# Altium integrated library Altium_WE-XTAL (rev21a).IntLib: 324 symbols (part 3 of 5)
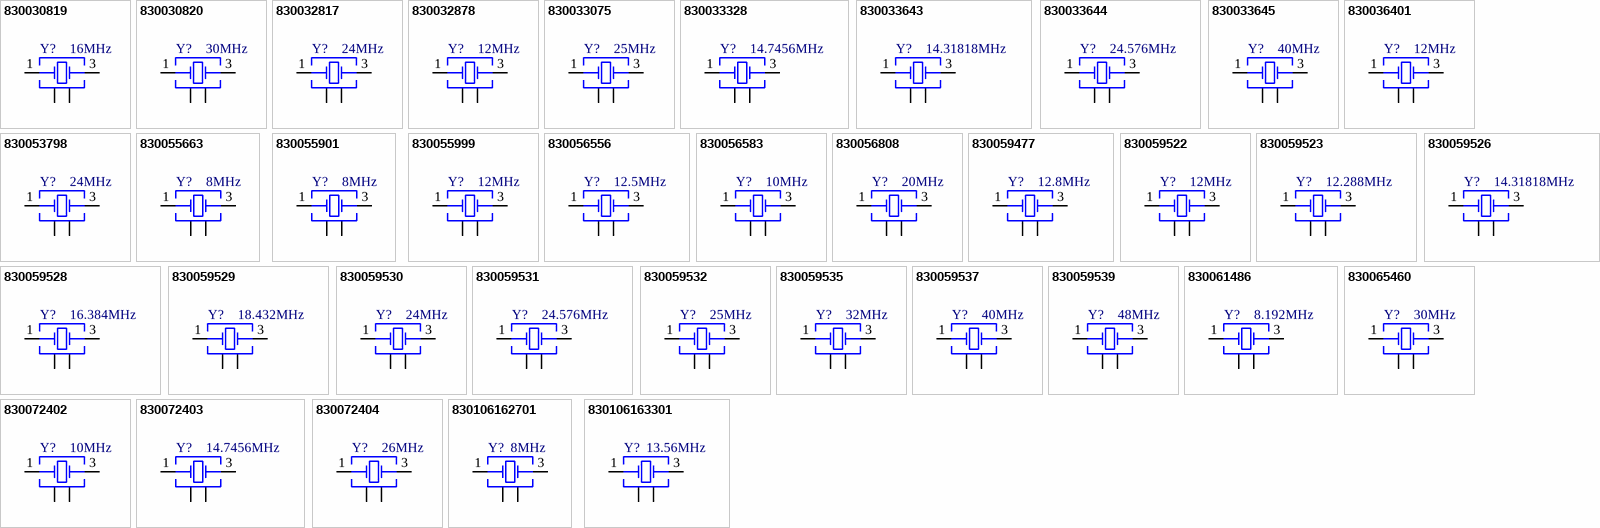
[diagram p20: symbols 830030819 to 830106163301]

## 830033643
designator Y?, comment 14.31818MHz
WE-XTAL Quartz Crystal, SMT, CFPX-104, 14.31818MHz, +/-50ppm; Manufacturer Part Number: 830033643; Manufacturer: Wurth Elektronik; Load Capacitance: 18pF; ComponentLink1Description: Manufacturer; ComponentLink1URL: http://www.we-online.de; ComponentLink2Description: Datasheet; ComponentLink2URL: https://katalog.we-online.com/pbs/datasheet/830033643.pdf; Operating Temperature: -10 to +60degC; Packaging: Tape and Reel; Published Date: July 2020; Size: CFPX-104; Frequency Stability: +/-50ppm; Frequency: 14.31818MHz; Frequency Tolerance: +/-50ppm; Mounting Technology: SMT
footprint WE-XTAL_CFPX-104
pins: 1 Crystal, 2 GND & Lid, 3 Crystal, 4 GND & Lid

## 830033644
designator Y?, comment 24.576MHz
WE-XTAL Quartz Crystal, SMT, CFPX-104, 24.576MHz, +/-50ppm; Manufacturer Part Number: 830033644; Manufacturer: Wurth Elektronik; Load Capacitance: 18pF; ComponentLink1Description: Manufacturer; ComponentLink1URL: http://www.we-online.de; ComponentLink2Description: Datasheet; ComponentLink2URL: https://katalog.we-online.com/pbs/datasheet/830033644.pdf; Operating Temperature: -10 to +60degC; Packaging: Tape and Reel; Published Date: July 2020; Size: CFPX-104; Frequency Stability: +/-50ppm; Frequency: 24.576MHz; Frequency Tolerance: +/-50ppm; Mounting Technology: SMT
footprint WE-XTAL_CFPX-104
pins: 1 Crystal, 2 GND & Lid, 3 Crystal, 4 GND & Lid

## 830033645
designator Y?, comment 40MHz
WE-XTAL Quartz Crystal, SMT, CFPX-104, 40MHz, +/-50ppm; Manufacturer Part Number: 830033645; Manufacturer: Wurth Elektronik; Load Capacitance: 18pF; ComponentLink1Description: Manufacturer; ComponentLink1URL: http://www.we-online.de; ComponentLink2Description: Datasheet; ComponentLink2URL: https://katalog.we-online.com/pbs/datasheet/830033645.pdf; Operating Temperature: -10 to +60degC; Packaging: Tape and Reel; Published Date: July 2020; Size: CFPX-104; Frequency Stability: +/-50ppm; Frequency: 40MHz; Frequency Tolerance: +/-50ppm; Mounting Technology: SMT
footprint WE-XTAL_CFPX-104
pins: 1 Crystal, 2 GND & Lid, 3 Crystal, 4 GND & Lid

## 830036401
designator Y?, comment 12MHz
WE-XTAL Quartz Crystal, SMT, CFPX-104, 12MHz, +/-20ppm; Manufacturer Part Number: 830036401; Manufacturer: Wurth Elektronik; Frequency Stability: +/-50ppm; Load Capacitance: 18pF; ComponentLink1Description: Manufacturer; ComponentLink1URL: http://www.we-online.de; ComponentLink2Description: Datasheet; ComponentLink2URL: https://katalog.we-online.com/pbs/datasheet/830036401.pdf; Operating Temperature: -20 to +70degC; Packaging: Tape and Reel; Published Date: July 2020; Size: CFPX-104; Frequency: 12MHz; Frequency Tolerance: +/-20ppm; Mounting Technology: SMT
footprint WE-XTAL_CFPX-104
pins: 1 Crystal, 2 GND & Lid, 3 Crystal, 4 GND & Lid

## 830053798
designator Y?, comment 24MHz
WE-XTAL Quartz Crystal, SMT, CFPX-104, 24MHz, +/-10ppm; Manufacturer Part Number: 830053798; Manufacturer: Wurth Elektronik; Frequency Stability: +/-25ppm; Load Capacitance: 18pF; ComponentLink1Description: Manufacturer; ComponentLink1URL: http://www.we-online.de; ComponentLink2Description: Datasheet; ComponentLink2URL: https://katalog.we-online.com/pbs/datasheet/830053798.pdf; Operating Temperature: -40 to +85degC; Packaging: Tape and Reel; Published Date: July 2020; Size: CFPX-104; Frequency: 24MHz; Frequency Tolerance: +/-10ppm; Mounting Technology: SMT
footprint WE-XTAL_CFPX-104
pins: 1 Crystal, 2 GND & Lid, 3 Crystal, 4 GND & Lid

## 830055663
designator Y?, comment 8MHz
WE-XTAL Quartz Crystal, SMT, CFPX-104, 8MHz, +/-20ppm; Manufacturer Part Number: 830055663; Manufacturer: Wurth Elektronik; Frequency Stability: +/-30ppm; Load Capacitance: 18pF; ComponentLink1Description: Manufacturer; ComponentLink1URL: http://www.we-online.de; ComponentLink2Description: Datasheet; ComponentLink2URL: https://katalog.we-online.com/pbs/datasheet/830055663.pdf; Operating Temperature: -40 to +85degC; Packaging: Tape and Reel; Published Date: July 2020; Size: CFPX-104; Frequency: 8MHz; Frequency Tolerance: +/-20ppm; Mounting Technology: SMT
footprint WE-XTAL_CFPX-104
pins: 1 Crystal, 2 GND & Lid, 3 Crystal, 4 GND & Lid

## 830055901
designator Y?, comment 8MHz
WE-XTAL Quartz Crystal, SMT, CFPX-104, 8MHz, +/-20ppm; Manufacturer Part Number: 830055901; Manufacturer: Wurth Elektronik; Frequency Stability: +/-50ppm; Load Capacitance: 18pF; ComponentLink1Description: Manufacturer; ComponentLink1URL: http://www.we-online.de; ComponentLink2Description: Datasheet; ComponentLink2URL: https://katalog.we-online.com/pbs/datasheet/830055901.pdf; Operating Temperature: -20 to +70degC; Packaging: Tape and Reel; Published Date: July 2020; Size: CFPX-104; Frequency: 8MHz; Frequency Tolerance: +/-20ppm; Mounting Technology: SMT
footprint WE-XTAL_CFPX-104
pins: 1 Crystal, 2 GND & Lid, 3 Crystal, 4 GND & Lid

## 830055999
designator Y?, comment 12MHz
WE-XTAL Quartz Crystal, SMT, CFPX-104, 12MHz, +/-30ppm; Manufacturer Part Number: 830055999; Manufacturer: Wurth Elektronik; Load Capacitance: 18pF; ComponentLink1Description: Manufacturer; ComponentLink1URL: http://www.we-online.de; ComponentLink2Description: Datasheet; ComponentLink2URL: https://katalog.we-online.com/pbs/datasheet/830055999.pdf; Operating Temperature: -40 to +85degC; Packaging: Tape and Reel; Published Date: July 2020; Size: CFPX-104; Frequency Stability: +/-30ppm; Frequency: 12MHz; Frequency Tolerance: +/-30ppm; Mounting Technology: SMT
footprint WE-XTAL_CFPX-104
pins: 1 Crystal, 2 GND & Lid, 3 Crystal, 4 GND & Lid

## 830056556
designator Y?, comment 12.5MHz
WE-XTAL Quartz Crystal, SMT, CFPX-104, 12.5MHz, +/-50ppm; Manufacturer Part Number: 830056556; Manufacturer: Wurth Elektronik; Load Capacitance: 18pF; ComponentLink1Description: Manufacturer; ComponentLink1URL: http://www.we-online.de; ComponentLink2Description: Datasheet; ComponentLink2URL: https://katalog.we-online.com/pbs/datasheet/830056556.pdf; Operating Temperature: -40 to +85degC; Packaging: Tape and Reel; Published Date: July 2020; Size: CFPX-104; Frequency Stability: +/-50ppm; Frequency: 12.5MHz; Frequency Tolerance: +/-50ppm; Mounting Technology: SMT
footprint WE-XTAL_CFPX-104
pins: 1 Crystal, 2 GND & Lid, 3 Crystal, 4 GND & Lid

## 830056583
designator Y?, comment 10MHz
WE-XTAL Quartz Crystal, SMT, CFPX-104, 10MHz, +/-30ppm; Manufacturer Part Number: 830056583; Manufacturer: Wurth Elektronik; Load Capacitance: 12pF; ComponentLink1Description: Manufacturer; ComponentLink1URL: http://www.we-online.de; ComponentLink2Description: Datasheet; ComponentLink2URL: https://katalog.we-online.com/pbs/datasheet/830056583.pdf; Operating Temperature: -40 to +85degC; Packaging: Tape and Reel; Published Date: July 2020; Size: CFPX-104; Frequency Stability: +/-30ppm; Frequency: 10MHz; Frequency Tolerance: +/-30ppm; Mounting Technology: SMT
footprint WE-XTAL_CFPX-104
pins: 1 Crystal, 2 GND & Lid, 3 Crystal, 4 GND & Lid

## 830056808
designator Y?, comment 20MHz
WE-XTAL Quartz Crystal, SMT, CFPX-104, 20MHz, +/-20ppm; Manufacturer Part Number: 830056808; Manufacturer: Wurth Elektronik; Frequency Stability: +/-30ppm; Load Capacitance: 18pF; ComponentLink1Description: Manufacturer; ComponentLink1URL: http://www.we-online.de; ComponentLink2Description: Datasheet; ComponentLink2URL: https://katalog.we-online.com/pbs/datasheet/830056808.pdf; Operating Temperature: -40 to +85degC; Packaging: Tape and Reel; Published Date: July 2020; Size: CFPX-104; Frequency: 20MHz; Frequency Tolerance: +/-20ppm; Mounting Technology: SMT
footprint WE-XTAL_CFPX-104
pins: 1 Crystal, 2 GND & Lid, 3 Crystal, 4 GND & Lid

## 830059477
designator Y?, comment 12.8MHz
WE-XTAL Quartz Crystal, SMT, CFPX-104, 12.8MHz, +/-10ppm; Manufacturer Part Number: 830059477; Manufacturer: Wurth Elektronik; Frequency Stability: +/-20ppm; Load Capacitance: 15pF; ComponentLink1Description: Manufacturer; ComponentLink1URL: http://www.we-online.de; ComponentLink2Description: Datasheet; ComponentLink2URL: https://katalog.we-online.com/pbs/datasheet/830059477.pdf; Operating Temperature: -40 to +85degC; Packaging: Tape and Reel; Published Date: July 2020; Size: CFPX-104; Frequency: 12.8MHz; Frequency Tolerance: +/-10ppm; Mounting Technology: SMT
footprint WE-XTAL_CFPX-104
pins: 1 Crystal, 2 GND & Lid, 3 Crystal, 4 GND & Lid

## 830059522
designator Y?, comment 12MHz
WE-XTAL Quartz Crystal, SMT, CFPX-104, 12MHz, +/-20ppm; Manufacturer Part Number: 830059522; Manufacturer: Wurth Elektronik; Frequency Stability: +/-30ppm; Load Capacitance: 18pF; ComponentLink1Description: Manufacturer; ComponentLink1URL: http://www.we-online.de; ComponentLink2Description: Datasheet; ComponentLink2URL: https://katalog.we-online.com/pbs/datasheet/830059522.pdf; Operating Temperature: -40 to +85degC; Packaging: Tape and Reel; Published Date: July 2020; Size: CFPX-104; Frequency: 12MHz; Frequency Tolerance: +/-20ppm; Mounting Technology: SMT
footprint WE-XTAL_CFPX-104
pins: 1 Crystal, 2 GND & Lid, 3 Crystal, 4 GND & Lid

## 830059523
designator Y?, comment 12.288MHz
WE-XTAL Quartz Crystal, SMT, CFPX-104, 12.288MHz, +/-20ppm; Manufacturer Part Number: 830059523; Manufacturer: Wurth Elektronik; Frequency Stability: +/-30ppm; Load Capacitance: 18pF; ComponentLink1Description: Manufacturer; ComponentLink1URL: http://www.we-online.de; ComponentLink2Description: Datasheet; ComponentLink2URL: https://katalog.we-online.com/pbs/datasheet/830059523.pdf; Operating Temperature: -40 to +85degC; Packaging: Tape and Reel; Published Date: July 2020; Size: CFPX-104; Frequency: 12.288MHz; Frequency Tolerance: +/-20ppm; Mounting Technology: SMT
footprint WE-XTAL_CFPX-104
pins: 1 Crystal, 2 GND & Lid, 3 Crystal, 4 GND & Lid

## 830059526
designator Y?, comment 14.31818MHz
WE-XTAL Quartz Crystal, SMT, CFPX-104, 14.31818MHz, +/-20ppm; Manufacturer Part Number: 830059526; Manufacturer: Wurth Elektronik; Frequency Stability: +/-30ppm; Load Capacitance: 18pF; ComponentLink1Description: Manufacturer; ComponentLink1URL: http://www.we-online.de; ComponentLink2Description: Datasheet; ComponentLink2URL: https://katalog.we-online.com/pbs/datasheet/830059526.pdf; Operating Temperature: -40 to +85degC; Packaging: Tape and Reel; Published Date: July 2020; Size: CFPX-104; Frequency: 14.31818MHz; Frequency Tolerance: +/-20ppm; Mounting Technology: SMT
footprint WE-XTAL_CFPX-104
pins: 1 Crystal, 2 GND & Lid, 3 Crystal, 4 GND & Lid

## 830059528
designator Y?, comment 16.384MHz
WE-XTAL Quartz Crystal, SMT, CFPX-104, 16.384MHz, +/-20ppm; Manufacturer Part Number: 830059528; Manufacturer: Wurth Elektronik; Frequency Stability: +/-30ppm; Load Capacitance: 18pF; ComponentLink1Description: Manufacturer; ComponentLink1URL: http://www.we-online.de; ComponentLink2Description: Datasheet; ComponentLink2URL: https://katalog.we-online.com/pbs/datasheet/830059528.pdf; Operating Temperature: -40 to +85degC; Packaging: Tape and Reel; Published Date: July 2020; Size: CFPX-104; Frequency: 16.384MHz; Frequency Tolerance: +/-20ppm; Mounting Technology: SMT
footprint WE-XTAL_CFPX-104
pins: 1 Crystal, 2 GND & Lid, 3 Crystal, 4 GND & Lid

## 830059529
designator Y?, comment 18.432MHz
WE-XTAL Quartz Crystal, SMT, CFPX-104, 18.432MHz, +/-20ppm; Manufacturer Part Number: 830059529; Manufacturer: Wurth Elektronik; Frequency Stability: +/-30ppm; Load Capacitance: 18pF; ComponentLink1Description: Manufacturer; ComponentLink1URL: http://www.we-online.de; ComponentLink2Description: Datasheet; ComponentLink2URL: https://katalog.we-online.com/pbs/datasheet/830059529.pdf; Operating Temperature: -40 to +85degC; Packaging: Tape and Reel; Published Date: July 2020; Size: CFPX-104; Frequency: 18.432MHz; Frequency Tolerance: +/-20ppm; Mounting Technology: SMT
footprint WE-XTAL_CFPX-104
pins: 1 Crystal, 2 GND & Lid, 3 Crystal, 4 GND & Lid

## 830059530
designator Y?, comment 24MHz
WE-XTAL Quartz Crystal, SMT, CFPX-104, 24MHz, +/-20ppm; Manufacturer Part Number: 830059530; Manufacturer: Wurth Elektronik; Frequency Stability: +/-30ppm; Load Capacitance: 18pF; ComponentLink1Description: Manufacturer; ComponentLink1URL: http://www.we-online.de; ComponentLink2Description: Datasheet; ComponentLink2URL: https://katalog.we-online.com/pbs/datasheet/830059530.pdf; Operating Temperature: -40 to +85degC; Packaging: Tape and Reel; Published Date: July 2020; Size: CFPX-104; Frequency: 24MHz; Frequency Tolerance: +/-20ppm; Mounting Technology: SMT
footprint WE-XTAL_CFPX-104
pins: 1 Crystal, 2 GND & Lid, 3 Crystal, 4 GND & Lid

## 830059531
designator Y?, comment 24.576MHz
WE-XTAL Quartz Crystal, SMT, CFPX-104, 24.576MHz, +/-20ppm; Manufacturer Part Number: 830059531; Manufacturer: Wurth Elektronik; Frequency Stability: +/-30ppm; Load Capacitance: 18pF; ComponentLink1Description: Manufacturer; ComponentLink1URL: http://www.we-online.de; ComponentLink2Description: Datasheet; ComponentLink2URL: https://katalog.we-online.com/pbs/datasheet/830059531.pdf; Operating Temperature: -40 to +85degC; Packaging: Tape and Reel; Published Date: July 2020; Size: CFPX-104; Frequency: 24.576MHz; Frequency Tolerance: +/-20ppm; Mounting Technology: SMT
footprint WE-XTAL_CFPX-104
pins: 1 Crystal, 2 GND & Lid, 3 Crystal, 4 GND & Lid

## 830059532
designator Y?, comment 25MHz
WE-XTAL Quartz Crystal, SMT, CFPX-104, 25MHz, +/-20ppm; Manufacturer Part Number: 830059532; Manufacturer: Wurth Elektronik; Frequency Stability: +/-30ppm; Load Capacitance: 18pF; ComponentLink1Description: Manufacturer; ComponentLink1URL: http://www.we-online.de; ComponentLink2Description: Datasheet; ComponentLink2URL: https://katalog.we-online.com/pbs/datasheet/830059532.pdf; Operating Temperature: -40 to +85degC; Packaging: Tape and Reel; Published Date: July 2020; Size: CFPX-104; Frequency: 25MHz; Frequency Tolerance: +/-20ppm; Mounting Technology: SMT
footprint WE-XTAL_CFPX-104
pins: 1 Crystal, 2 GND & Lid, 3 Crystal, 4 GND & Lid

## 830059535
designator Y?, comment 32MHz
WE-XTAL Quartz Crystal, SMT, CFPX-104, 32MHz, +/-20ppm; Manufacturer Part Number: 830059535; Manufacturer: Wurth Elektronik; Frequency Stability: +/-30ppm; Load Capacitance: 18pF; ComponentLink1Description: Manufacturer; ComponentLink1URL: http://www.we-online.de; ComponentLink2Description: Datasheet; ComponentLink2URL: https://katalog.we-online.com/pbs/datasheet/830059535.pdf; Operating Temperature: -40 to +85degC; Packaging: Tape and Reel; Published Date: July 2020; Size: CFPX-104; Frequency: 32MHz; Frequency Tolerance: +/-20ppm; Mounting Technology: SMT
footprint WE-XTAL_CFPX-104
pins: 1 Crystal, 2 GND & Lid, 3 Crystal, 4 GND & Lid

## 830059537
designator Y?, comment 40MHz
WE-XTAL Quartz Crystal, SMT, CFPX-104, 40MHz, +/-20ppm; Manufacturer Part Number: 830059537; Manufacturer: Wurth Elektronik; Frequency Stability: +/-30ppm; Load Capacitance: 18pF; ComponentLink1Description: Manufacturer; ComponentLink1URL: http://www.we-online.de; ComponentLink2Description: Datasheet; ComponentLink2URL: https://katalog.we-online.com/pbs/datasheet/830059537.pdf; Operating Temperature: -40 to +85degC; Packaging: Tape and Reel; Published Date: July 2020; Size: CFPX-104; Frequency: 40MHz; Frequency Tolerance: +/-20ppm; Mounting Technology: SMT
footprint WE-XTAL_CFPX-104
pins: 1 Crystal, 2 GND & Lid, 3 Crystal, 4 GND & Lid

## 830059539
designator Y?, comment 48MHz
WE-XTAL Quartz Crystal, SMT, CFPX-104, 48MHz, +/-20ppm; Manufacturer Part Number: 830059539; Manufacturer: Wurth Elektronik; Frequency Stability: +/-30ppm; Load Capacitance: 18pF; ComponentLink1Description: Manufacturer; ComponentLink1URL: http://www.we-online.de; ComponentLink2Description: Datasheet; ComponentLink2URL: https://katalog.we-online.com/pbs/datasheet/830059539.pdf; Operating Temperature: -40 to +85degC; Packaging: Tape and Reel; Published Date: July 2020; Size: CFPX-104; Frequency: 48MHz; Frequency Tolerance: +/-20ppm; Mounting Technology: SMT
footprint WE-XTAL_CFPX-104 (Quartz Crystal, size CFPX-104, body 5x3.2mm)
pins: 1 Crystal, 2 GND & Lid, 3 Crystal, 4 GND & Lid

## 830061486
designator Y?, comment 8.192MHz
WE-XTAL Quartz Crystal, SMT, CFPX-104, 8.192MHz, +/-30ppm; Manufacturer Part Number: 830061486; Manufacturer: Wurth Elektronik; Frequency Stability: +/-50ppm; Load Capacitance: 10pF; ComponentLink1Description: Manufacturer; ComponentLink1URL: http://www.we-online.de; ComponentLink2Description: Datasheet; ComponentLink2URL: https://katalog.we-online.com/pbs/datasheet/830061486.pdf; Operating Temperature: -40 to +85degC; Packaging: Tape and Reel; Published Date: July 2020; Size: CFPX-104; Frequency: 8.192MHz; Frequency Tolerance: +/-30ppm; Mounting Technology: SMT
footprint WE-XTAL_CFPX-104
pins: 1 Crystal, 2 GND & Lid, 3 Crystal, 4 GND & Lid

## 830065460
designator Y?, comment 30MHz
WE-XTAL Quartz Crystal, SMT, CFPX-104, 30MHz, +/-10ppm; Manufacturer Part Number: 830065460; Manufacturer: Wurth Elektronik; Frequency Stability: +/-20ppm; Load Capacitance: 10pF; ComponentLink1Description: Manufacturer; ComponentLink1URL: http://www.we-online.de; ComponentLink2Description: Datasheet; ComponentLink2URL: https://katalog.we-online.com/pbs/datasheet/830065460.pdf; Operating Temperature: -40 to +85degC; Packaging: Tape and Reel; Published Date: July 2020; Size: CFPX-104; Frequency: 30MHz; Frequency Tolerance: +/-10ppm; Mounting Technology: SMT
footprint WE-XTAL_CFPX-104
pins: 1 Crystal, 2 GND & Lid, 3 Crystal, 4 GND & Lid

## 830072402
designator Y?, comment 10MHz
WE-XTAL Quartz Crystal, SMT, CFPX-104, 10MHz, +/-20ppm; Manufacturer Part Number: 830072402; Manufacturer: Wurth Elektronik; Frequency Stability: +/-30ppm; Load Capacitance: 18pF; ComponentLink1Description: Manufacturer; ComponentLink1URL: http://www.we-online.de; ComponentLink2Description: Datasheet; ComponentLink2URL: https://katalog.we-online.com/pbs/datasheet/830072402.pdf; Operating Temperature: -40 to +85degC; Packaging: Tape and Reel; Published Date: July 2020; Size: CFPX-104; Frequency: 10MHz; Frequency Tolerance: +/-20ppm; Mounting Technology: SMT
footprint WE-XTAL_CFPX-104
pins: 1 Crystal, 2 GND & Lid, 3 Crystal, 4 GND & Lid

## 830072403
designator Y?, comment 14.7456MHz
WE-XTAL Quartz Crystal, SMT, CFPX-104, 14.7456MHz, +/-20ppm; Manufacturer Part Number: 830072403; Manufacturer: Wurth Elektronik; Frequency Stability: +/-30ppm; Load Capacitance: 18pF; ComponentLink1Description: Manufacturer; ComponentLink1URL: http://www.we-online.de; ComponentLink2Description: Datasheet; ComponentLink2URL: https://katalog.we-online.com/pbs/datasheet/830072403.pdf; Operating Temperature: -40 to +85degC; Packaging: Tape and Reel; Published Date: July 2020; Size: CFPX-104; Frequency: 14.7456MHz; Frequency Tolerance: +/-20ppm; Mounting Technology: SMT
footprint WE-XTAL_CFPX-104
pins: 1 Crystal, 2 GND & Lid, 3 Crystal, 4 GND & Lid

## 830072404
designator Y?, comment 26MHz
WE-XTAL Quartz Crystal, SMT, CFPX-104, 26MHz, +/-20ppm; Manufacturer Part Number: 830072404; Manufacturer: Wurth Elektronik; Frequency Stability: +/-30ppm; Load Capacitance: 18pF; ComponentLink1Description: Manufacturer; ComponentLink1URL: http://www.we-online.de; ComponentLink2Description: Datasheet; ComponentLink2URL: https://katalog.we-online.com/pbs/datasheet/830072404.pdf; Operating Temperature: -40 to +85degC; Packaging: Tape and Reel; Published Date: July 2020; Size: CFPX-104; Frequency: 26MHz; Frequency Tolerance: +/-20ppm; Mounting Technology: SMT
footprint WE-XTAL_CFPX-104
pins: 1 Crystal, 2 GND & Lid, 3 Crystal, 4 GND & Lid

## 830106162701
designator Y?, comment 8MHz
WE-XTAL Quartz Crystal, SMT, CFPX-104, 8MHz, +/-20ppm; Manufacturer Part Number: 830106162701; Manufacturer: Wurth Elektronik; Frequency Stability: +/-30ppm; Load Capacitance: 16pF; ComponentLink1Description: Manufacturer; ComponentLink1URL: http://www.we-online.de; ComponentLink2Description: Datasheet; ComponentLink2URL: https://www.we-online.com/catalog/datasheet/830106162701.pdf; Operating Temperature: -40 to +85degC; Packaging: Tape and Reel; Published Date: November 2020; Size: CFPX-104; Frequency: 8MHz; Frequency Tolerance: +/-20ppm; Mounting Technology: SMT
footprint WE-XTAL_CFPX-104
pins: 1 OSC1, 2 GND, 3 OSC2, 4 GND

## 830106163301
designator Y?, comment 13.56MHz
WE-XTAL Quartz Crystal, SMT, CFPX-104, 13.56MHz, +/-20ppm; Manufacturer Part Number: 830106163301; Manufacturer: Wurth Elektronik; Frequency Stability: +/-30ppm; Load Capacitance: 16pF; ComponentLink1Description: Manufacturer; ComponentLink1URL: http://www.we-online.de; ComponentLink2Description: Datasheet; ComponentLink2URL: https://www.we-online.com/catalog/datasheet/830106163301.pdf; Operating Temperature: -40 to +85degC; Packaging: Tape and Reel; Published Date: November 2020; Size: CFPX-104; Frequency: 13.56MHz; Frequency Tolerance: +/-20ppm; Mounting Technology: SMT
footprint WE-XTAL_CFPX-104
pins: 1 OSC1, 2 GND, 3 OSC2, 4 GND


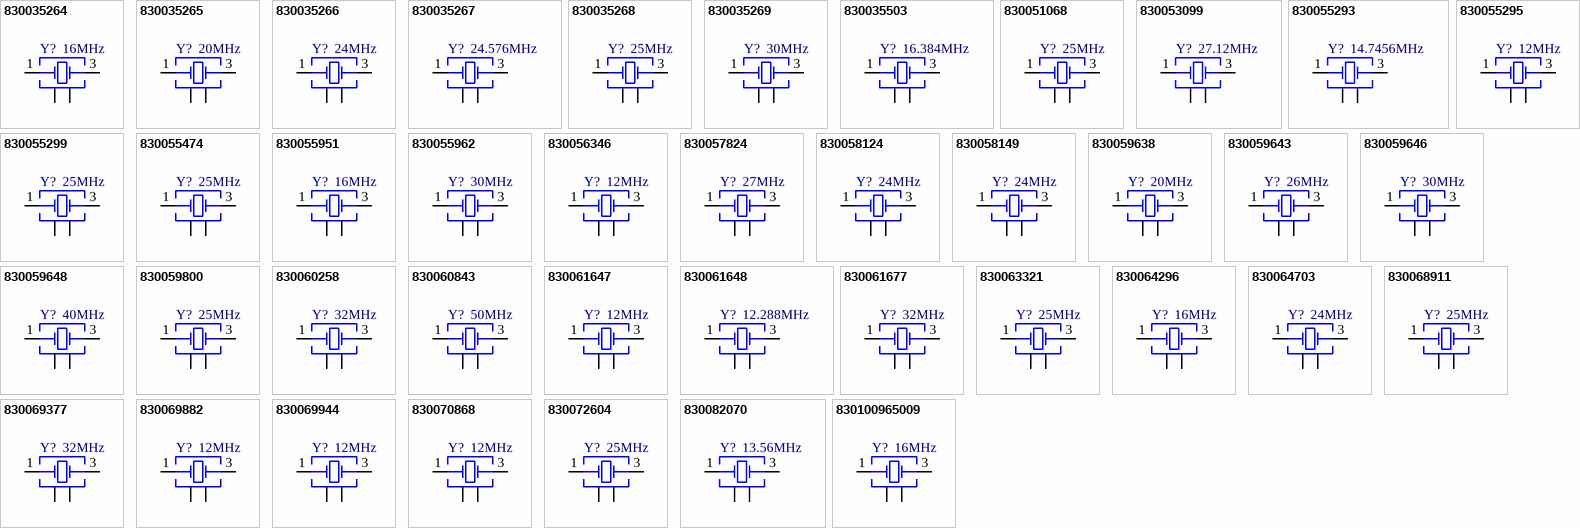
[diagram p10: symbols 830035264 to 830100965009]

## 830035264
designator Y?, comment 16MHz
WE-XTAL Quartz Crystal, SMT, CFPX-180, 16MHz, +/-50ppm; Manufacturer Part Number: 830035264; Manufacturer: Wurth Elektronik; Load Capacitance: 16pF; ComponentLink1Description: Manufacturer; ComponentLink1URL: http://www.we-online.de; ComponentLink2Description: Datasheet; ComponentLink2URL: https://katalog.we-online.com/pbs/datasheet/830035264.pdf; Operating Temperature: -10 to +60degC; Packaging: Tape and Reel; Published Date: July 2020; Size: CFPX-180; Frequency Stability: +/-50ppm; Frequency: 16MHz; Frequency Tolerance: +/-50ppm; Mounting Technology: SMT
footprint WE-XTAL_CFPX-180
pins: 1 Crystal, 2 GND, 3 Crystal, 4 GND

## 830035265
designator Y?, comment 20MHz
WE-XTAL Quartz Crystal, SMT, CFPX-180, 20MHz, +/-50ppm; Manufacturer Part Number: 830035265; Manufacturer: Wurth Elektronik; Load Capacitance: 16pF; ComponentLink1Description: Manufacturer; ComponentLink1URL: http://www.we-online.de; ComponentLink2Description: Datasheet; ComponentLink2URL: https://katalog.we-online.com/pbs/datasheet/830035265.pdf; Operating Temperature: -10 to +60degC; Packaging: Tape and Reel; Published Date: July 2020; Size: CFPX-180; Frequency Stability: +/-50ppm; Frequency: 20MHz; Frequency Tolerance: +/-50ppm; Mounting Technology: SMT
footprint WE-XTAL_CFPX-180
pins: 1 Crystal, 2 GND, 3 Crystal, 4 GND

## 830035266
designator Y?, comment 24MHz
WE-XTAL Quartz Crystal, SMT, CFPX-180, 24MHz, +/-50ppm; Manufacturer Part Number: 830035266; Manufacturer: Wurth Elektronik; Load Capacitance: 16pF; ComponentLink1Description: Manufacturer; ComponentLink1URL: http://www.we-online.de; ComponentLink2Description: Datasheet; ComponentLink2URL: https://katalog.we-online.com/pbs/datasheet/830035266.pdf; Operating Temperature: -10 to +60degC; Packaging: Tape and Reel; Published Date: July 2020; Size: CFPX-180; Frequency Stability: +/-50ppm; Frequency: 24MHz; Frequency Tolerance: +/-50ppm; Mounting Technology: SMT
footprint WE-XTAL_CFPX-180
pins: 1 Crystal, 2 GND, 3 Crystal, 4 GND

## 830035267
designator Y?, comment 24.576MHz
WE-XTAL Quartz Crystal, SMT, CFPX-180, 24.576MHz, +/-50ppm; Manufacturer Part Number: 830035267; Manufacturer: Wurth Elektronik; Load Capacitance: 16pF; ComponentLink1Description: Manufacturer; ComponentLink1URL: http://www.we-online.de; ComponentLink2Description: Datasheet; ComponentLink2URL: https://katalog.we-online.com/pbs/datasheet/830035267.pdf; Operating Temperature: -10 to +60degC; Packaging: Tape and Reel; Published Date: July 2020; Size: CFPX-180; Frequency Stability: +/-50ppm; Frequency: 24.576MHz; Frequency Tolerance: +/-50ppm; Mounting Technology: SMT
footprint WE-XTAL_CFPX-180
pins: 1 Crystal, 2 GND, 3 Crystal, 4 GND

## 830035268
designator Y?, comment 25MHz
WE-XTAL Quartz Crystal, SMT, CFPX-180, 25MHz, +/-50ppm; Manufacturer Part Number: 830035268; Manufacturer: Wurth Elektronik; Load Capacitance: 16pF; ComponentLink1Description: Manufacturer; ComponentLink1URL: http://www.we-online.de; ComponentLink2Description: Datasheet; ComponentLink2URL: https://katalog.we-online.com/pbs/datasheet/830035268.pdf; Operating Temperature: -10 to +60degC; Packaging: Tape and Reel; Published Date: July 2020; Size: CFPX-180; Frequency Stability: +/-50ppm; Frequency: 25MHz; Frequency Tolerance: +/-50ppm; Mounting Technology: SMT
footprint WE-XTAL_CFPX-180
pins: 1 Crystal, 2 GND, 3 Crystal, 4 GND

## 830035269
designator Y?, comment 30MHz
WE-XTAL Quartz Crystal, SMT, CFPX-180, 30MHz, +/-50ppm; Manufacturer Part Number: 830035269; Manufacturer: Wurth Elektronik; Load Capacitance: 16pF; ComponentLink1Description: Manufacturer; ComponentLink1URL: http://www.we-online.de; ComponentLink2Description: Datasheet; ComponentLink2URL: https://katalog.we-online.com/pbs/datasheet/830035269.pdf; Operating Temperature: -10 to +60degC; Packaging: Tape and Reel; Published Date: July 2020; Size: CFPX-180; Frequency Stability: +/-50ppm; Frequency: 30MHz; Frequency Tolerance: +/-50ppm; Mounting Technology: SMT
footprint WE-XTAL_CFPX-180
pins: 1 Crystal, 2 GND, 3 Crystal, 4 GND

## 830035503
designator Y?, comment 16.384MHz
WE-XTAL Quartz Crystal, SMT, CFPX-180, 16.384MHz, +/-50ppm; Manufacturer Part Number: 830035503; Manufacturer: Wurth Elektronik; Load Capacitance: 16pF; ComponentLink1Description: Manufacturer; ComponentLink1URL: http://www.we-online.de; ComponentLink2Description: Datasheet; ComponentLink2URL: https://katalog.we-online.com/pbs/datasheet/830035503.pdf; Operating Temperature: -10 to +60degC; Packaging: Tape and Reel; Published Date: July 2020; Size: CFPX-180; Frequency Stability: +/-50ppm; Frequency: 16.384MHz; Frequency Tolerance: +/-50ppm; Mounting Technology: SMT
footprint WE-XTAL_CFPX-180
pins: 1 Crystal, 2 GND, 3 Crystal, 4 GND

## 830051068
designator Y?, comment 25MHz
WE-XTAL Quartz Crystal, SMT, CFPX-180, 25MHz, +/-10ppm; Manufacturer Part Number: 830051068; Manufacturer: Wurth Elektronik; Load Capacitance: 9pF; ComponentLink1Description: Manufacturer; ComponentLink1URL: http://www.we-online.de; ComponentLink2Description: Datasheet; ComponentLink2URL: https://katalog.we-online.com/pbs/datasheet/830051068.pdf; Operating Temperature: -20 to +70degC; Packaging: Tape and Reel; Published Date: July 2020; Size: CFPX-180; Frequency Stability: +/-10ppm; Frequency: 25MHz; Frequency Tolerance: +/-10ppm; Mounting Technology: SMT
footprint WE-XTAL_CFPX-180
pins: 1 Crystal, 2 GND, 3 Crystal, 4 GND

## 830053099
designator Y?, comment 27.12MHz
WE-XTAL Quartz Crystal, SMT, CFPX-180, 27.12MHz, +/-10ppm; Manufacturer Part Number: 830053099; Manufacturer: Wurth Elektronik; Load Capacitance: 10pF; ComponentLink1Description: Manufacturer; ComponentLink1URL: http://www.we-online.de; ComponentLink2Description: Datasheet; ComponentLink2URL: https://katalog.we-online.com/pbs/datasheet/830053099.pdf; Operating Temperature: -20 to +70degC; Packaging: Tape and Reel; Published Date: July 2020; Size: CFPX-180; Frequency Stability: +/-10ppm; Frequency: 27.12MHz; Frequency Tolerance: +/-10ppm; Mounting Technology: SMT
footprint WE-XTAL_CFPX-180
pins: 1 Crystal, 2 GND, 3 Crystal, 4 GND

## 830055293
designator Y?, comment 14.7456MHz
WE-XTAL Quartz Crystal, SMT, CFPX-180, 14.7456MHz, +/-20ppm; Manufacturer Part Number: 830055293; Manufacturer: Wurth Elektronik; Frequency Stability: +/-30ppm; Load Capacitance: 18pF; ComponentLink1Description: Manufacturer; ComponentLink1URL: http://www.we-online.de; ComponentLink2Description: Datasheet; ComponentLink2URL: https://katalog.we-online.com/pbs/datasheet/830055293.pdf; Operating Temperature: -40 to +85degC; Packaging: Tape and Reel; Published Date: July 2020; Size: CFPX-180; Frequency: 14.7456MHz; Frequency Tolerance: +/-20ppm; Mounting Technology: SMT
footprint WE-XTAL_CFPX-180
pins: 1 Crystal, 2 GND, 3 Crystal, 4 GND

## 830055295
designator Y?, comment 12MHz
WE-XTAL Quartz Crystal, SMT, CFPX-180, 12MHz, +/-20ppm; Manufacturer Part Number: 830055295; Manufacturer: Wurth Elektronik; Frequency Stability: +/-30ppm; Load Capacitance: 18pF; ComponentLink1Description: Manufacturer; ComponentLink1URL: http://www.we-online.de; ComponentLink2Description: Datasheet; ComponentLink2URL: https://katalog.we-online.com/pbs/datasheet/830055295.pdf; Operating Temperature: -40 to +85degC; Packaging: Tape and Reel; Published Date: July 2020; Size: CFPX-180; Frequency: 12MHz; Frequency Tolerance: +/-20ppm; Mounting Technology: SMT
footprint WE-XTAL_CFPX-180
pins: 1 Crystal, 2 GND, 3 Crystal, 4 GND

## 830055299
designator Y?, comment 25MHz
WE-XTAL Quartz Crystal, SMT, CFPX-180, 25MHz, +/-20ppm; Manufacturer Part Number: 830055299; Manufacturer: Wurth Elektronik; Frequency Stability: +/-30ppm; Load Capacitance: 18pF; ComponentLink1Description: Manufacturer; ComponentLink1URL: http://www.we-online.de; ComponentLink2Description: Datasheet; ComponentLink2URL: https://katalog.we-online.com/pbs/datasheet/830055299.pdf; Operating Temperature: -40 to +85degC; Packaging: Tape and Reel; Published Date: July 2020; Size: CFPX-180; Frequency: 25MHz; Frequency Tolerance: +/-20ppm; Mounting Technology: SMT
footprint WE-XTAL_CFPX-180
pins: 1 Crystal, 2 GND, 3 Crystal, 4 GND

## 830055474
designator Y?, comment 25MHz
WE-XTAL Quartz Crystal, SMT, CFPX-180, 25MHz, +/-50ppm; Manufacturer Part Number: 830055474; Manufacturer: Wurth Elektronik; Load Capacitance: 16pF; ComponentLink1Description: Manufacturer; ComponentLink1URL: http://www.we-online.de; ComponentLink2Description: Datasheet; ComponentLink2URL: https://katalog.we-online.com/pbs/datasheet/830055474.pdf; Operating Temperature: -40 to +85degC; Packaging: Tape and Reel; Published Date: July 2020; Size: CFPX-180; Frequency Stability: +/-50ppm; Frequency: 25MHz; Frequency Tolerance: +/-50ppm; Mounting Technology: SMT
footprint WE-XTAL_CFPX-180
pins: 1 Crystal, 2 GND, 3 Crystal, 4 GND

## 830055951
designator Y?, comment 16MHz
WE-XTAL Quartz Crystal, SMT, CFPX-180, 16MHz, +/-20ppm; Manufacturer Part Number: 830055951; Manufacturer: Wurth Elektronik; Frequency Stability: +/-30ppm; Load Capacitance: 18pF; ComponentLink1Description: Manufacturer; ComponentLink1URL: http://www.we-online.de; ComponentLink2Description: Datasheet; ComponentLink2URL: https://katalog.we-online.com/pbs/datasheet/830055951.pdf; Operating Temperature: -40 to +85degC; Packaging: Tape and Reel; Published Date: July 2020; Size: CFPX-180; Frequency: 16MHz; Frequency Tolerance: +/-20ppm; Mounting Technology: SMT
footprint WE-XTAL_CFPX-180
pins: 1 Crystal, 2 GND, 3 Crystal, 4 GND

## 830055962
designator Y?, comment 30MHz
WE-XTAL Quartz Crystal, SMT, CFPX-180, 30MHz, +/-10ppm; Manufacturer Part Number: 830055962; Manufacturer: Wurth Elektronik; Load Capacitance: 12pF; ComponentLink1Description: Manufacturer; ComponentLink1URL: http://www.we-online.de; ComponentLink2Description: Datasheet; ComponentLink2URL: https://katalog.we-online.com/pbs/datasheet/830055962.pdf; Operating Temperature: -10 to +60degC; Packaging: Tape and Reel; Published Date: July 2020; Size: CFPX-180; Frequency Stability: +/-10ppm; Frequency: 30MHz; Frequency Tolerance: +/-10ppm; Mounting Technology: SMT
footprint WE-XTAL_CFPX-180
pins: 1 Crystal, 2 GND, 3 Crystal, 4 GND

## 830056346
designator Y?, comment 12MHz
WE-XTAL Quartz Crystal, SMT, CFPX-180, 12MHz, +/-30ppm; Manufacturer Part Number: 830056346; Manufacturer: Wurth Elektronik; Load Capacitance: 18pF; ComponentLink1Description: Manufacturer; ComponentLink1URL: http://www.we-online.de; ComponentLink2Description: Datasheet; ComponentLink2URL: https://katalog.we-online.com/pbs/datasheet/830056346.pdf; Operating Temperature: -40 to +85degC; Packaging: Tape and Reel; Published Date: July 2020; Size: CFPX-180; Frequency Stability: +/-30ppm; Frequency: 12MHz; Frequency Tolerance: +/-30ppm; Mounting Technology: SMT
footprint WE-XTAL_CFPX-180
pins: 1 Crystal, 2 GND, 3 Crystal, 4 GND

## 830057824
designator Y?, comment 27MHz
WE-XTAL Quartz Crystal, SMT, CFPX-180, 27MHz, +/-20ppm; Manufacturer Part Number: 830057824; Manufacturer: Wurth Elektronik; Frequency Stability: +/-30ppm; Load Capacitance: 18pF; ComponentLink1Description: Manufacturer; ComponentLink1URL: http://www.we-online.de; ComponentLink2Description: Datasheet; ComponentLink2URL: https://katalog.we-online.com/pbs/datasheet/830057824.pdf; Operating Temperature: -40 to +85degC; Packaging: Tape and Reel; Published Date: July 2020; Size: CFPX-180; Frequency: 27MHz; Frequency Tolerance: +/-20ppm; Mounting Technology: SMT
footprint WE-XTAL_CFPX-180
pins: 1 Crystal, 2 GND, 3 Crystal, 4 GND

## 830058124
designator Y?, comment 24MHz
WE-XTAL Quartz Crystal, SMT, CFPX-180, 24MHz, +/-20ppm; Manufacturer Part Number: 830058124; Manufacturer: Wurth Elektronik; Frequency Stability: +/-30ppm; Load Capacitance: 18pF; ComponentLink1Description: Manufacturer; ComponentLink1URL: http://www.we-online.de; ComponentLink2Description: Datasheet; ComponentLink2URL: https://katalog.we-online.com/pbs/datasheet/830058124.pdf; Operating Temperature: -40 to +85degC; Packaging: Tape and Reel; Published Date: July 2020; Size: CFPX-180; Frequency: 24MHz; Frequency Tolerance: +/-20ppm; Mounting Technology: SMT
footprint WE-XTAL_CFPX-180
pins: 1 Crystal, 2 GND, 3 Crystal, 4 GND

## 830058149
designator Y?, comment 24MHz
WE-XTAL Quartz Crystal, SMT, CFPX-180, 24MHz, +/-10ppm; Manufacturer Part Number: 830058149; Manufacturer: Wurth Elektronik; Load Capacitance: 10pF; ComponentLink1Description: Manufacturer; ComponentLink1URL: http://www.we-online.de; ComponentLink2Description: Datasheet; ComponentLink2URL: https://katalog.we-online.com/pbs/datasheet/830058149.pdf; Operating Temperature: -20 to +70degC; Packaging: Tape and Reel; Published Date: July 2020; Size: CFPX-180; Frequency Stability: +/-10ppm; Frequency: 24MHz; Frequency Tolerance: +/-10ppm; Mounting Technology: SMT
footprint WE-XTAL_CFPX-180
pins: 1 Crystal, 2 GND, 3 Crystal, 4 GND

## 830059638
designator Y?, comment 20MHz
WE-XTAL Quartz Crystal, SMT, CFPX-180, 20MHz, +/-20ppm; Manufacturer Part Number: 830059638; Manufacturer: Wurth Elektronik; Frequency Stability: +/-30ppm; Load Capacitance: 18pF; ComponentLink1Description: Manufacturer; ComponentLink1URL: http://www.we-online.de; ComponentLink2Description: Datasheet; ComponentLink2URL: https://katalog.we-online.com/pbs/datasheet/830059638.pdf; Operating Temperature: -40 to +85degC; Packaging: Tape and Reel; Published Date: July 2020; Size: CFPX-180; Frequency: 20MHz; Frequency Tolerance: +/-20ppm; Mounting Technology: SMT
footprint WE-XTAL_CFPX-180
pins: 1 Crystal, 2 GND, 3 Crystal, 4 GND

## 830059643
designator Y?, comment 26MHz
WE-XTAL Quartz Crystal, SMT, CFPX-180, 26MHz, +/-20ppm; Manufacturer Part Number: 830059643; Manufacturer: Wurth Elektronik; Frequency Stability: +/-30ppm; Load Capacitance: 18pF; ComponentLink1Description: Manufacturer; ComponentLink1URL: http://www.we-online.de; ComponentLink2Description: Datasheet; ComponentLink2URL: https://katalog.we-online.com/pbs/datasheet/830059643.pdf; Operating Temperature: -40 to +85degC; Packaging: Tape and Reel; Published Date: July 2020; Size: CFPX-180; Frequency: 26MHz; Frequency Tolerance: +/-20ppm; Mounting Technology: SMT
footprint WE-XTAL_CFPX-180
pins: 1 Crystal, 2 GND, 3 Crystal, 4 GND

## 830059646
designator Y?, comment 30MHz
WE-XTAL Quartz Crystal, SMT, CFPX-180, 30MHz, +/-20ppm; Manufacturer Part Number: 830059646; Manufacturer: Wurth Elektronik; Frequency Stability: +/-30ppm; Load Capacitance: 18pF; ComponentLink1Description: Manufacturer; ComponentLink1URL: http://www.we-online.de; ComponentLink2Description: Datasheet; ComponentLink2URL: https://katalog.we-online.com/pbs/datasheet/830059646.pdf; Operating Temperature: -40 to +85degC; Packaging: Tape and Reel; Published Date: July 2020; Size: CFPX-180; Frequency: 30MHz; Frequency Tolerance: +/-20ppm; Mounting Technology: SMT
footprint WE-XTAL_CFPX-180
pins: 1 Crystal, 2 GND, 3 Crystal, 4 GND

## 830059648
designator Y?, comment 40MHz
WE-XTAL Quartz Crystal, SMT, CFPX-180, 40MHz, +/-20ppm; Manufacturer Part Number: 830059648; Manufacturer: Wurth Elektronik; Frequency Stability: +/-30ppm; Load Capacitance: 18pF; ComponentLink1Description: Manufacturer; ComponentLink1URL: http://www.we-online.de; ComponentLink2Description: Datasheet; ComponentLink2URL: https://katalog.we-online.com/pbs/datasheet/830059648.pdf; Operating Temperature: -40 to +85degC; Packaging: Tape and Reel; Published Date: July 2020; Size: CFPX-180; Frequency: 40MHz; Frequency Tolerance: +/-20ppm; Mounting Technology: SMT
footprint WE-XTAL_CFPX-180
pins: 1 Crystal, 2 GND, 3 Crystal, 4 GND

## 830059800
designator Y?, comment 25MHz
WE-XTAL Quartz Crystal, SMT, CFPX-180, 25MHz, +/-10ppm; Manufacturer Part Number: 830059800; Manufacturer: Wurth Elektronik; Load Capacitance: 10pF; ComponentLink1Description: Manufacturer; ComponentLink1URL: http://www.we-online.de; ComponentLink2Description: Datasheet; ComponentLink2URL: https://katalog.we-online.com/pbs/datasheet/830059800.pdf; Operating Temperature: -10 to +60degC; Packaging: Tape and Reel; Published Date: July 2020; Size: CFPX-180; Frequency Stability: +/-10ppm; Frequency: 25MHz; Frequency Tolerance: +/-10ppm; Mounting Technology: SMT
footprint WE-XTAL_CFPX-180
pins: 1 Crystal, 2 GND, 3 Crystal, 4 GND

## 830060258
designator Y?, comment 32MHz
WE-XTAL Quartz Crystal, SMT, CFPX-180, 32MHz, +/-30ppm; Manufacturer Part Number: 830060258; Manufacturer: Wurth Elektronik; Load Capacitance: 10pF; ComponentLink1Description: Manufacturer; ComponentLink1URL: http://www.we-online.de; ComponentLink2Description: Datasheet; ComponentLink2URL: https://katalog.we-online.com/pbs/datasheet/830060258.pdf; Operating Temperature: -20 to +70degC; Packaging: Tape and Reel; Published Date: July 2020; Size: CFPX-180; Frequency Stability: +/-30ppm; Frequency: 32MHz; Frequency Tolerance: +/-30ppm; Mounting Technology: SMT
footprint WE-XTAL_CFPX-180
pins: 1 Crystal, 2 GND, 3 Crystal, 4 GND

## 830060843
designator Y?, comment 50MHz
WE-XTAL Quartz Crystal, SMT, CFPX-180, 50MHz, +/-25ppm; Manufacturer Part Number: 830060843; Manufacturer: Wurth Elektronik; Load Capacitance: 10pF; ComponentLink1Description: Manufacturer; ComponentLink1URL: http://www.we-online.de; ComponentLink2Description: Datasheet; ComponentLink2URL: https://katalog.we-online.com/pbs/datasheet/830060843.pdf; Operating Temperature: -20 to +70degC; Packaging: Tape and Reel; Published Date: July 2020; Size: CFPX-180; Frequency Stability: +/-25ppm; Frequency: 50MHz; Frequency Tolerance: +/-25ppm; Mounting Technology: SMT
footprint WE-XTAL_CFPX-180
pins: 1 Crystal, 2 GND, 3 Crystal, 4 GND

## 830061647
designator Y?, comment 12MHz
WE-XTAL Quartz Crystal, SMT, CFPX-180, 12MHz, +/-20ppm; Manufacturer Part Number: 830061647; Manufacturer: Wurth Elektronik; Frequency Stability: +/-30ppm; Load Capacitance: 12pF; ComponentLink1Description: Manufacturer; ComponentLink1URL: http://www.we-online.de; ComponentLink2Description: Datasheet; ComponentLink2URL: https://katalog.we-online.com/pbs/datasheet/830061647.pdf; Operating Temperature: -40 to +85degC; Packaging: Tape and Reel; Published Date: July 2020; Size: CFPX-180; Frequency: 12MHz; Frequency Tolerance: +/-20ppm; Mounting Technology: SMT
footprint WE-XTAL_CFPX-180
pins: 1 Crystal, 2 GND, 3 Crystal, 4 GND

## 830061648
designator Y?, comment 12.288MHz
WE-XTAL Quartz Crystal, SMT, CFPX-180, 12.288MHz, +/-20ppm; Manufacturer Part Number: 830061648; Manufacturer: Wurth Elektronik; Frequency Stability: +/-30ppm; Load Capacitance: 12pF; ComponentLink1Description: Manufacturer; ComponentLink1URL: http://www.we-online.de; ComponentLink2Description: Datasheet; ComponentLink2URL: https://www.we-online.com/catalog/datasheet/830061648.pdf; Operating Temperature: -40 to +85degC; Packaging: Tape and Reel; Published Date: November 2020; Size: CFPX-180; Frequency: 12.288MHz; Frequency Tolerance: +/-20ppm; Mounting Technology: SMT
footprint WE-XTAL_CFPX-180
pins: 1 Crystal, 2 GND, 3 Crystal, 4 GND

## 830061677
designator Y?, comment 32MHz
WE-XTAL Quartz Crystal, SMT, CFPX-180, 32MHz, +/-20ppm; Manufacturer Part Number: 830061677; Manufacturer: Wurth Elektronik; Frequency Stability: +/-30ppm; Load Capacitance: 12pF; ComponentLink1Description: Manufacturer; ComponentLink1URL: http://www.we-online.de; ComponentLink2Description: Datasheet; ComponentLink2URL: https://katalog.we-online.com/pbs/datasheet/830061677.pdf; Operating Temperature: -40 to +85degC; Packaging: Tape and Reel; Published Date: July 2020; Size: CFPX-180; Frequency: 32MHz; Frequency Tolerance: +/-20ppm; Mounting Technology: SMT
footprint WE-XTAL_CFPX-180
pins: 1 Crystal, 2 GND, 3 Crystal, 4 GND

## 830063321
designator Y?, comment 25MHz
WE-XTAL Quartz Crystal, SMT, CFPX-180, 25MHz, +/-20ppm; Manufacturer Part Number: 830063321; Manufacturer: Wurth Elektronik; Frequency Stability: +/-50ppm; Load Capacitance: 18pF; ComponentLink1Description: Manufacturer; ComponentLink1URL: http://www.we-online.de; ComponentLink2Description: Datasheet; ComponentLink2URL: https://katalog.we-online.com/pbs/datasheet/830063321.pdf; Operating Temperature: -40 to +85degC; Packaging: Tape and Reel; Published Date: July 2020; Size: CFPX-180; Frequency: 25MHz; Frequency Tolerance: +/-20ppm; Mounting Technology: SMT
footprint WE-XTAL_CFPX-180
pins: 1 Crystal, 2 GND, 3 Crystal, 4 GND

## 830064296
designator Y?, comment 16MHz
WE-XTAL Quartz Crystal, SMT, CFPX-180, 16MHz, +/-20ppm; Manufacturer Part Number: 830064296; Manufacturer: Wurth Elektronik; Load Capacitance: 8pF; ComponentLink1Description: Manufacturer; ComponentLink1URL: http://www.we-online.de; ComponentLink2Description: Datasheet; ComponentLink2URL: https://katalog.we-online.com/pbs/datasheet/830064296.pdf; Operating Temperature: -10 to +70degC; Packaging: Tape and Reel; Published Date: July 2020; Size: CFPX-180; Frequency Stability: +/-20ppm; Frequency: 16MHz; Frequency Tolerance: +/-20ppm; Mounting Technology: SMT
footprint WE-XTAL_CFPX-180
pins: 1 Crystal, 2 GND, 3 Crystal, 4 GND

## 830064703
designator Y?, comment 24MHz
WE-XTAL Quartz Crystal, SMT, CFPX-180, 24MHz, +/-20ppm; Manufacturer Part Number: 830064703; Manufacturer: Wurth Elektronik; Frequency Stability: +/-50ppm; Load Capacitance: 18pF; ComponentLink1Description: Manufacturer; ComponentLink1URL: http://www.we-online.de; ComponentLink2Description: Datasheet; ComponentLink2URL: https://katalog.we-online.com/pbs/datasheet/830064703.pdf; Operating Temperature: -40 to +85degC; Packaging: Tape and Reel; Published Date: July 2020; Size: CFPX-180; Frequency: 24MHz; Frequency Tolerance: +/-20ppm; Mounting Technology: SMT
footprint WE-XTAL_CFPX-180
pins: 1 Crystal, 2 GND, 3 Crystal, 4 GND

## 830068911
designator Y?, comment 25MHz
WE-XTAL Quartz Crystal, SMT, CFPX-180, 25MHz, +/-30ppm; Manufacturer Part Number: 830068911; Manufacturer: Wurth Elektronik; Frequency Stability: +/-50ppm; Load Capacitance: 18pF; ComponentLink1Description: Manufacturer; ComponentLink1URL: http://www.we-online.de; ComponentLink2Description: Datasheet; ComponentLink2URL: https://katalog.we-online.com/pbs/datasheet/830068911.pdf; Operating Temperature: -20 to +70degC; Packaging: Tape and Reel; Published Date: July 2020; Size: CFPX-180; Frequency: 25MHz; Frequency Tolerance: +/-30ppm; Mounting Technology: SMT
footprint WE-XTAL_CFPX-180
pins: 1 Crystal, 2 GND, 3 Crystal, 4 GND

## 830069377
designator Y?, comment 32MHz
WE-XTAL Quartz Crystal, SMT, CFPX-180, 32MHz, +/-20ppm; Manufacturer Part Number: 830069377; Manufacturer: Wurth Elektronik; Frequency Stability: +/-30ppm; Load Capacitance: 18pF; ComponentLink1Description: Manufacturer; ComponentLink1URL: http://www.we-online.de; ComponentLink2Description: Datasheet; ComponentLink2URL: https://katalog.we-online.com/pbs/datasheet/830069377.pdf; Operating Temperature: -40 to +85degC; Packaging: Tape and Reel; Published Date: July 2020; Size: CFPX-180; Frequency: 32MHz; Frequency Tolerance: +/-20ppm; Mounting Technology: SMT
footprint WE-XTAL_CFPX-180
pins: 1 Crystal, 2 GND, 3 Crystal, 4 GND

## 830069882
designator Y?, comment 12MHz
WE-XTAL Quartz Crystal, SMT, CFPX-180, 12MHz, +/-30ppm; Manufacturer Part Number: 830069882; Manufacturer: Wurth Elektronik; Frequency Stability: +/-100ppm; Load Capacitance: 10pF; ComponentLink1Description: Manufacturer; ComponentLink1URL: http://www.we-online.de; ComponentLink2Description: Datasheet; ComponentLink2URL: https://katalog.we-online.com/pbs/datasheet/830069882.pdf; Operating Temperature: -40 to +125degC; Packaging: Tape and Reel; Published Date: July 2020; Size: CFPX-180; Frequency: 12MHz; Frequency Tolerance: +/-30ppm; Mounting Technology: SMT
footprint WE-XTAL_CFPX-180
pins: 1 Crystal, 2 GND, 3 Crystal, 4 GND

## 830069944
designator Y?, comment 12MHz
WE-XTAL Quartz Crystal, SMT, CFPX-180, 12MHz, +/-20ppm; Manufacturer Part Number: 830069944; Manufacturer: Wurth Elektronik; Frequency Stability: +/-30ppm; Load Capacitance: 15pF; ComponentLink1Description: Manufacturer; ComponentLink1URL: http://www.we-online.de; ComponentLink2Description: Datasheet; ComponentLink2URL: https://katalog.we-online.com/pbs/datasheet/830069944.pdf; Operating Temperature: -40 to +85degC; Packaging: Tape and Reel; Published Date: July 2020; Size: CFPX-180; Frequency: 12MHz; Frequency Tolerance: +/-20ppm; Mounting Technology: SMT
footprint WE-XTAL_CFPX-180
pins: 1 Crystal, 2 GND, 3 Crystal, 4 GND

## 830070868
designator Y?, comment 12MHz
WE-XTAL Quartz Crystal, SMT, CFPX-180, 12MHz, +/-10ppm; Manufacturer Part Number: 830070868; Manufacturer: Wurth Elektronik; Frequency Stability: +/-20ppm; Load Capacitance: 18pF; ComponentLink1Description: Manufacturer; ComponentLink1URL: http://www.we-online.de; ComponentLink2Description: Datasheet; ComponentLink2URL: https://katalog.we-online.com/pbs/datasheet/830070868.pdf; Operating Temperature: -40 to +85degC; Packaging: Tape and Reel; Published Date: July 2020; Size: CFPX-180; Frequency: 12MHz; Frequency Tolerance: +/-10ppm; Mounting Technology: SMT
footprint WE-XTAL_CFPX-180
pins: 1 Crystal, 2 GND, 3 Crystal, 4 GND

## 830072604
designator Y?, comment 25MHz
WE-XTAL Quartz Crystal, SMT, CFPX-180, 25MHz, +/-10ppm; Manufacturer Part Number: 830072604; Manufacturer: Wurth Elektronik; Frequency Stability: +/-20ppm; Load Capacitance: 8pF; ComponentLink1Description: Manufacturer; ComponentLink1URL: http://www.we-online.de; ComponentLink2Description: Datasheet; ComponentLink2URL: https://katalog.we-online.com/pbs/datasheet/830072604.pdf; Operating Temperature: -40 to +85degC; Packaging: Tape and Reel; Published Date: July 2020; Size: CFPX-180; Frequency: 25MHz; Frequency Tolerance: +/-10ppm; Mounting Technology: SMT
footprint WE-XTAL_CFPX-180
pins: 1 Crystal, 2 GND, 3 Crystal, 4 GND

## 830082070
designator Y?, comment 13.56MHz
WE-XTAL Quartz Crystal, SMT, CFPX-180, 13.56MHz, +/-10ppm; Manufacturer Part Number: 830082070; Manufacturer: Wurth Elektronik; Frequency Stability: +/-20ppm; Load Capacitance: 8pF; ComponentLink1Description: Manufacturer; ComponentLink1URL: http://www.we-online.de; ComponentLink2Description: Datasheet; ComponentLink2URL: https://www.we-online.com/catalog/datasheet/830082070.pdf; Operating Temperature: -40 to +85degC; Packaging: Tape and Reel; Published Date: November 2020; Size: CFPX-180; Frequency: 13.56MHz; Frequency Tolerance: +/-10ppm; Mounting Technology: SMT
footprint WE-XTAL_CFPX-180
pins: 1 Crystal, 2 GND, 3 Crystal, 4 GND

## 830100965009
designator Y?, comment 16MHz
WE-XTAL Quartz Crystal, SMT, CFPX-180, 16MHz, +/-10ppm; Manufacturer Part Number: 830100965009; Manufacturer: Wurth Elektronik; Frequency Stability: +/-20ppm; Load Capacitance: 16pF; ComponentLink1Description: Manufacturer; ComponentLink1URL: http://www.we-online.de; ComponentLink2Description: Datasheet; ComponentLink2URL: https://katalog.we-online.com/pbs/datasheet/830100965009.pdf; Operating Temperature: -40 to +85degC; Packaging: Tape and Reel; Published Date: July 2020; Size: CFPX-180; Frequency: 16MHz; Frequency Tolerance: +/-10ppm; Mounting Technology: SMT
footprint WE-XTAL_CFPX-180
pins: 1 Crystal, 2 GND, 3 Crystal, 4 GND

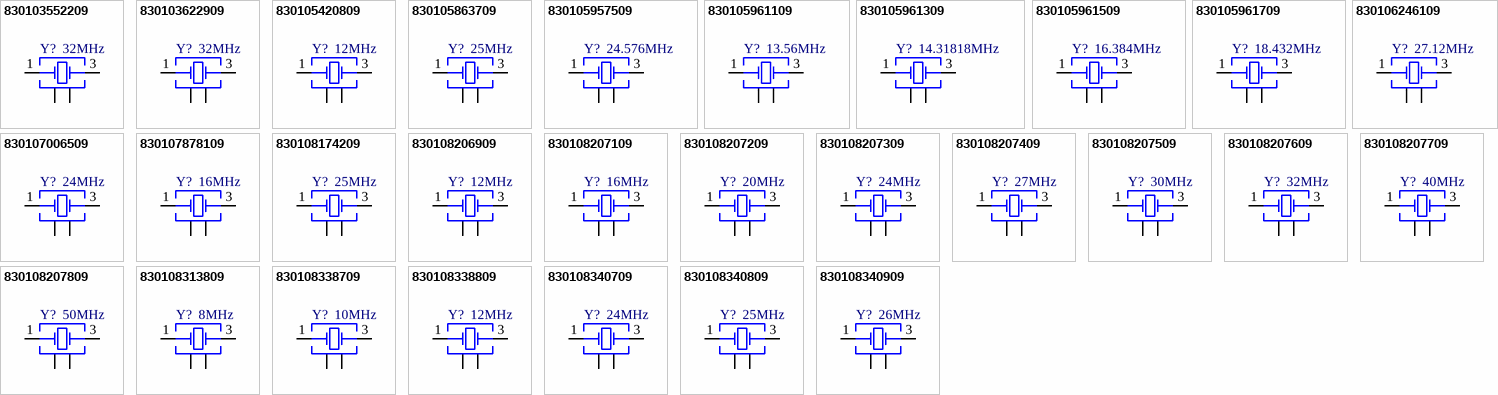
[diagram p11: symbols 830103552209 to 830108340909]

## 830103552209
designator Y?, comment 32MHz
WE-XTAL Quartz Crystal, SMT, CFPX-180, 32MHz, +/-10ppm; Manufacturer Part Number: 830103552209; Manufacturer: Wurth Elektronik; Frequency Stability: +/-20ppm; Load Capacitance: 9pF; ComponentLink1Description: Manufacturer; ComponentLink1URL: http://www.we-online.de; ComponentLink2Description: Datasheet; ComponentLink2URL: https://katalog.we-online.com/pbs/datasheet/830103552209.pdf; Operating Temperature: -40 to +85degC; Packaging: Tape and Reel; Published Date: July 2020; Size: CFPX-180; Frequency: 32MHz; Frequency Tolerance: +/-10ppm; Mounting Technology: SMT
footprint WE-XTAL_CFPX-180
pins: 1 Crystal, 2 GND, 3 Crystal, 4 GND

## 830103622909
designator Y?, comment 32MHz
WE-XTAL Quartz Crystal, SMT, CFPX-180, 32MHz, +/-10ppm; Manufacturer Part Number: 830103622909; Manufacturer: Wurth Elektronik; Frequency Stability: +/-15ppm; Load Capacitance: 9pF; ComponentLink1Description: Manufacturer; ComponentLink1URL: http://www.we-online.de; ComponentLink2Description: Datasheet; ComponentLink2URL: https://katalog.we-online.com/pbs/datasheet/830103622909.pdf; Operating Temperature: -40 to +85degC; Packaging: Tape and Reel; Published Date: July 2020; Size: CFPX-180; Frequency: 32MHz; Frequency Tolerance: +/-10ppm; Mounting Technology: SMT
footprint WE-XTAL_CFPX-180
pins: 1 Crystal, 2 GND, 3 Crystal, 4 GND

## 830105420809
designator Y?, comment 12MHz
WE-XTAL Quartz Crystal, SMT, CFPX-180, 12MHz, +/-10ppm; Manufacturer Part Number: 830105420809; Manufacturer: Wurth Elektronik; Load Capacitance: 10pF; ComponentLink1Description: Manufacturer; ComponentLink1URL: http://www.we-online.de; ComponentLink2Description: Datasheet; ComponentLink2URL: https://www.we-online.com/catalog/datasheet/830105420809.pdf; Operating Temperature: -20 to +70degC; Packaging: Tape and Reel; Published Date: November 2020; Size: CFPX-180; Frequency Stability: +/-10ppm; Frequency: 12MHz; Frequency Tolerance: +/-10ppm; Mounting Technology: SMT
footprint WE-XTAL_CFPX-180
pins: 1 Crystal, 2 GND&Lid, 3 Crystal, 4 GND&Lid